# Altium footprint library JST SH connector.PcbLib: 29 footprints (part 1 of 2)
Each footprint in its own frame and in the unit in brackets; x right, y up, seen from the top. Pads: shape width x height; smd on the part's side, far side on the other; paste and mask are expansions set on the pad; w line width, h text height; cw(c..) or ccw(c..) is an arc to the next point about the centre after c.
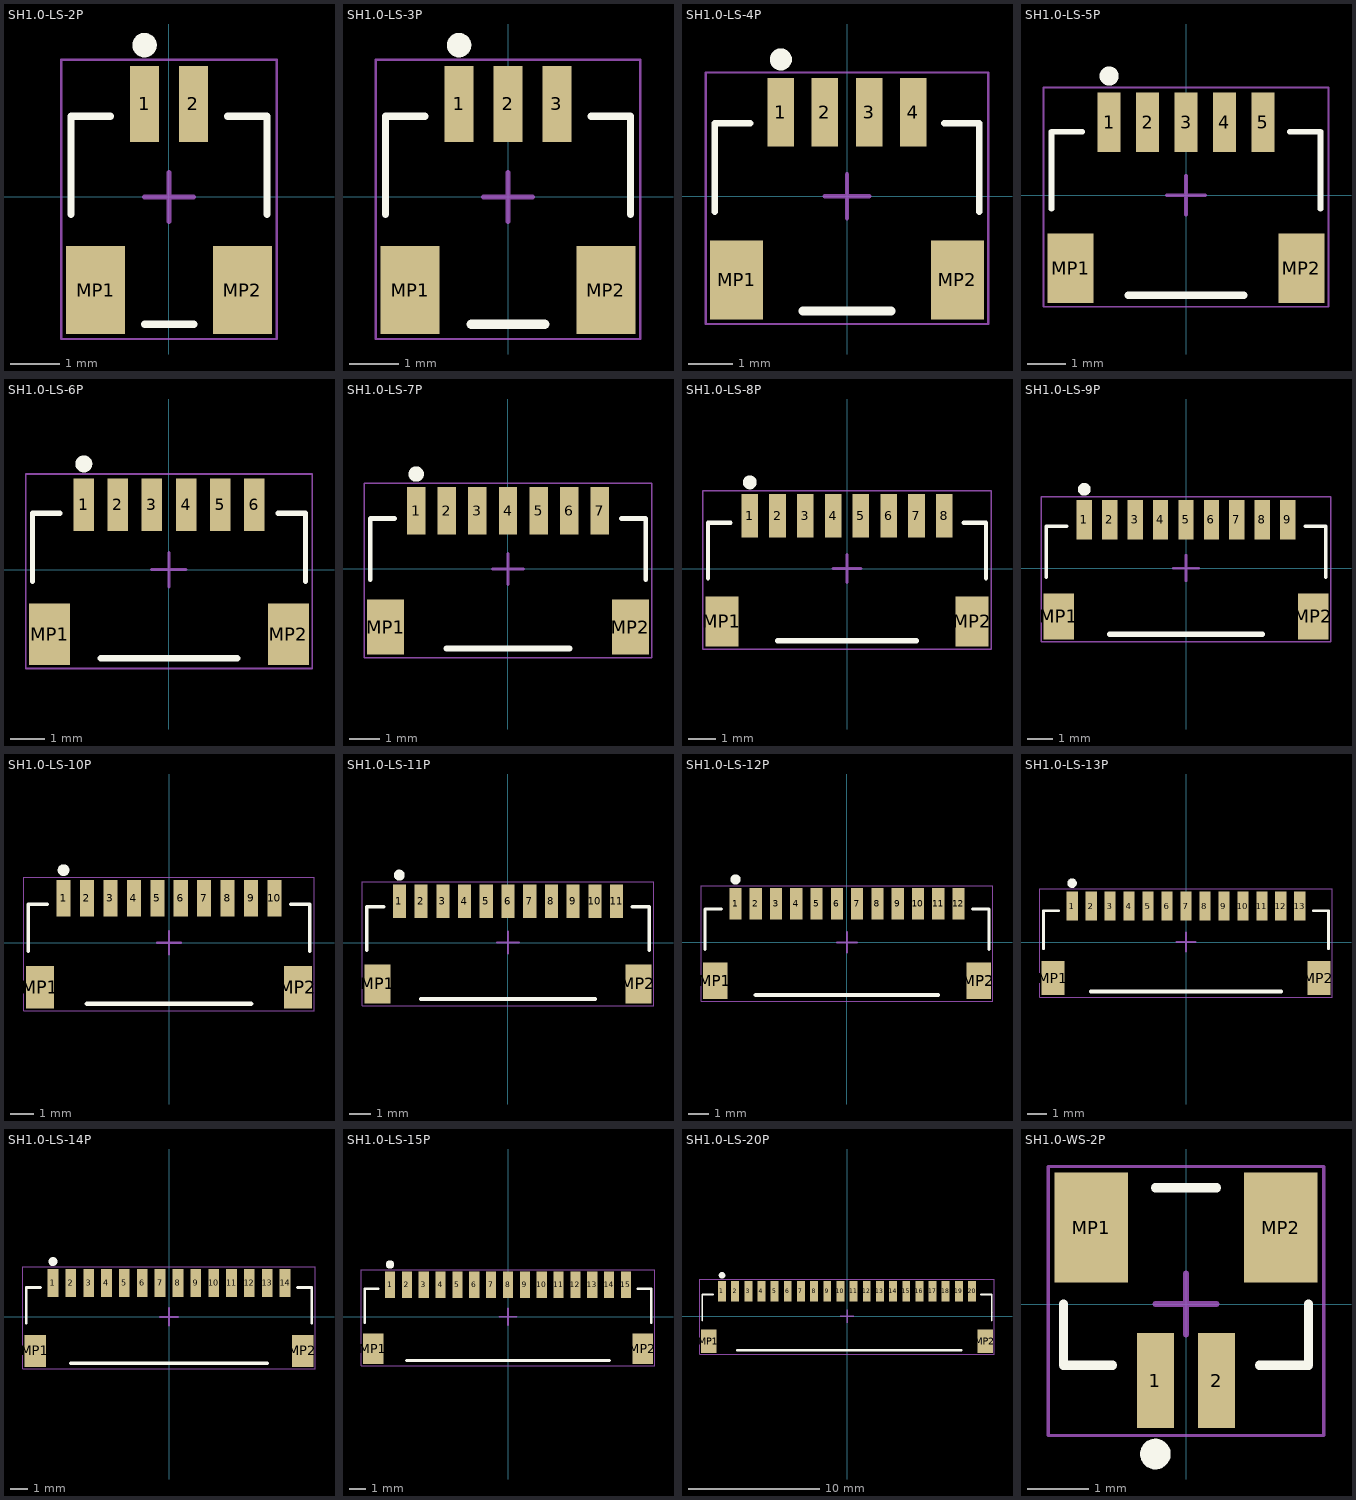
[diagram p0: the footprints below, top view; thin cyan lines are the x and y axes]

## SH1.0-LS-2P [mm]
pads (4):
  rect 0.6x1.55 smd: 1(-0.5,1.9) 2(0.5,1.9)
  rect 1.2x1.8 smd: MP1(-1.5,-1.9) MP2(1.5,-1.9)
Top Overlay:
  circle w0.25: c-0.5,3.1 r0.125
  lines w0.15: -2,-0.35 -2,1.65 -1.2,1.65 ; -0.492,-2.6 0.508,-2.6 ; 1.2,1.65 2,1.65 2,-0.35
Mechanical 15:
  lines w0.05: -2.2,-2.9 2.2,-2.9 2.2,2.8 -2.2,2.8 -2.2,-2.9
  lines w0.1: -0.5,0 0.5,0 ; 0,-0.5 0,0.5
3D body "SM02B-SRSS-TB.STEP": height 2.96, standoff 0, extent -2,-2.6 2,2.35

## SH1.0-LS-3P [mm]
pads (5):
  rect 0.6x1.55 smd: 1(-1,1.9) 2(0,1.9) 3(1,1.9)
  rect 1.2x1.8 smd: MP1(-2,-1.9) MP2(2,-1.9)
Top Overlay:
  circle w0.25: c-1,3.1 r0.125
  lines w0.15: -2.5,-0.35 -2.5,1.65 -1.7,1.65 ; 1.7,1.65 2.5,1.65 2.5,-0.35
  lines w0.2: -0.75,-2.6 0.75,-2.6
Mechanical 15:
  lines w0.05: -2.7,-2.9 2.7,-2.9 2.7,2.8 -2.7,2.8 -2.7,-2.9
  lines w0.1: -0.5,0 0.5,0 ; 0,-0.5 0,0.5
3D body "SM03B-SRSS-TB.STEP": height 2.96, standoff 0, extent -2.5,-2.6 2.5,2.35

## SH1.0-LS-4P [mm]
pads (6):
  rect 0.6x1.55 smd: 1(-1.5,1.9) 2(-0.5,1.9) 3(0.5,1.9) 4(1.5,1.9)
  rect 1.2x1.8 smd: MP1(-2.5,-1.9) MP2(2.5,-1.9)
Top Overlay:
  circle w0.25: c-1.5,3.1 r0.125
  lines w0.15: -3,-0.35 -3,1.65 -2.2,1.65 ; 2.2,1.65 3,1.65 3,-0.35
  lines w0.2: -1,-2.6 1,-2.6
Mechanical 15:
  lines w0.05: -3.2,-2.9 3.2,-2.9 3.2,2.8 -3.2,2.8 -3.2,-2.9
  lines w0.1: -0.5,0 0.5,0 ; 0,-0.5 0,0.5
3D body "SM04B-SRSS-TB.STEP": height 2.96, standoff 0, extent -3,-2.6 3,2.35

## SH1.0-LS-5P [mm]
pads (7):
  rect 0.6x1.55 smd: 1(-2,1.9) 2(-1,1.9) 3(0,1.9) 4(1,1.9) 5(2,1.9)
  rect 1.2x1.8 smd: MP1(-3,-1.9) MP2(3,-1.9)
Top Overlay:
  circle w0.25: c-2,3.1 r0.125
  lines w0.15: -3.5,-0.35 -3.5,1.65 -2.7,1.65 ; 2.7,1.65 3.5,1.65 3.5,-0.35
  lines w0.2: -1.5,-2.6 1.5,-2.6
Mechanical 15:
  lines w0.05: -3.7,-2.9 3.7,-2.9 3.7,2.8 -3.7,2.8 -3.7,-2.9
  lines w0.1: -0.5,0 0.5,0 ; 0,-0.5 0,0.5
3D body "SM05B-SRSS-TB.STEP": height 2.96, standoff 0, extent -3.5,-2.6 3.5,2.35

## SH1.0-LS-6P [mm]
pads (8):
  rect 0.6x1.55 smd: 1(-2.5,1.9) 2(-1.5,1.9) 3(-0.5,1.9) 4(0.5,1.9) 5(1.5,1.9) 6(2.5,1.9)
  rect 1.2x1.8 smd: MP1(-3.5,-1.9) MP2(3.5,-1.9)
Top Overlay:
  circle w0.25: c-2.5,3.1 r0.125
  lines w0.15: -4,-0.35 -4,1.65 -3.2,1.65 ; 3.2,1.65 4,1.65 4,-0.35
  lines w0.2: -2,-2.6 2,-2.6
Mechanical 15:
  lines w0.05: -4.2,-2.9 -4.2,2.8 4.2,2.8 4.2,-2.9 -4.2,-2.9
  lines w0.1: -0.5,0 0.5,0 ; 0,-0.5 0,0.5
3D body "SM06B-SRSS-TB.STEP": height 2.96, standoff 0, extent -4,-2.6 4,2.35

## SH1.0-LS-7P [mm]
pads (9):
  rect 0.6x1.55 smd: 1(-3,1.9) 2(-2,1.9) 3(-1,1.9) 4(0,1.9) 5(1,1.9) 6(2,1.9) 7(3,1.9)
  rect 1.2x1.8 smd: MP1(-4,-1.9) MP2(4,-1.9)
Top Overlay:
  circle w0.25: c-3,3.1 r0.125
  lines w0.15: -4.5,-0.35 -4.5,1.65 -3.7,1.65 ; 3.7,1.65 4.5,1.65 4.5,-0.35
  lines w0.2: -2,-2.6 2,-2.6
Mechanical 15:
  lines w0.05: -4.7,-2.9 4.7,-2.9 4.7,2.8 -4.7,2.8 -4.7,-2.9
  lines w0.1: -0.5,0 0.5,0 ; 0,-0.5 0,0.5
3D body "SM07B-SRSS-TB.STEP": height 2.96, standoff 0, extent -4.5,-2.6 4.5,2.35

## SH1.0-LS-8P [mm]
pads (10):
  rect 0.6x1.55 smd: 1(-3.5,1.9) 2(-2.5,1.9) 3(-1.5,1.9) 4(-0.5,1.9) 5(0.5,1.9) 6(1.5,1.9) 7(2.5,1.9) 8(3.5,1.9)
  rect 1.2x1.8 smd: MP1(-4.5,-1.9) MP2(4.5,-1.9)
Top Overlay:
  circle w0.25: c-3.5,3.1 r0.125
  lines w0.15: -5,-0.35 -5,1.65 -4.2,1.65 ; 4.2,1.65 5,1.65 5,-0.35
  lines w0.2: -2.5,-2.6 2.5,-2.6
Mechanical 15:
  lines w0.05: -5.2,-2.9 -5.2,2.8 5.2,2.8 5.2,-2.9 -5.2,-2.9
  lines w0.1: -0.5,0 0.5,0 ; 0,-0.5 0,0.5
3D body "SM08B-SRSS-TB.STEP": height 2.96, standoff 0, extent -5,-2.6 5,2.35

## SH1.0-LS-9P [mm]
pads (11):
  rect 0.6x1.55 smd: 1(-4,1.9) 2(-3,1.9) 3(-2,1.9) 4(-1,1.9) 5(0,1.9) 6(1,1.9) 7(2,1.9) 8(3,1.9) 9(4,1.9)
  rect 1.2x1.8 smd: MP1(-5,-1.9) MP2(5,-1.9)
Top Overlay:
  circle w0.25: c-4,3.1 r0.125
  lines w0.15: -5.5,-0.35 -5.5,1.65 -4.7,1.65 ; 4.7,1.65 5.5,1.65 5.5,-0.35
  lines w0.2: -3,-2.6 3,-2.6
Mechanical 15:
  lines w0.05: -5.7,-2.9 5.7,-2.9 5.7,2.8 -5.7,2.8 -5.7,-2.9
  lines w0.1: -0.5,0 0.5,0 ; 0,-0.5 0,0.5
3D body "SM09B-SRSS-TB.STEP": height 2.96, standoff 0, extent -5.5,-2.6 5.5,2.35

## SH1.0-LS-10P [mm]
pads (12):
  rect 0.6x1.55 smd: 1(-4.5,1.9) 2(-3.5,1.9) 3(-2.5,1.9) 4(-1.5,1.9) 5(-0.5,1.9) 6(0.5,1.9) 7(1.5,1.9) 8(2.5,1.9) 9(3.5,1.9) 10(4.5,1.9)
  rect 1.2x1.8 smd: MP1(-5.5,-1.9) MP2(5.5,-1.9)
Top Overlay:
  circle w0.25: c-4.5,3.1 r0.125
  lines w0.15: -6,-0.35 -6,1.65 -5.2,1.65 ; 5.2,1.65 6,1.65 6,-0.35
  lines w0.2: -3.5,-2.6 3.5,-2.6
Mechanical 15:
  lines w0.05: -6.2,-2.9 6.2,-2.9 6.2,2.8 -6.2,2.8 -6.2,-2.9
  lines w0.1: -0.5,0 0.5,0 ; 0,-0.5 0,0.5
3D body "SM10B-SRSS-TB.STEP": height 2.96, standoff 0, extent -6,-2.6 6,2.35

## SH1.0-LS-11P [mm]
pads (13):
  rect 0.6x1.55 smd: 1(-5,1.9) 2(-4,1.9) 3(-3,1.9) 4(-2,1.9) 5(-1,1.9) 6(0,1.9) 7(1,1.9) 8(2,1.9) 9(3,1.9) 10(4,1.9) 11(5,1.9)
  rect 1.2x1.8 smd: MP1(-6,-1.9) MP2(6,-1.9)
Top Overlay:
  circle w0.25: c-5,3.1 r0.125
  lines w0.15: -6.5,-0.35 -6.5,1.65 -5.7,1.65 ; 5.7,1.65 6.5,1.65 6.5,-0.35
  lines w0.2: -4,-2.6 4,-2.6
Mechanical 15:
  lines w0.05: -6.7,-2.9 -6.7,2.8 6.7,2.8 6.7,-2.9 -6.7,-2.9
  lines w0.1: -0.5,0 0.5,0 ; 0,-0.5 0,0.5
3D body "SM11B-SRSS-TB.STEP": height 2.96, standoff 0, extent -6.5,-2.6 6.5,2.35

## SH1.0-LS-12P [mm]
pads (14):
  rect 0.6x1.55 smd: 1(-5.5,1.9) 2(-4.5,1.9) 3(-3.5,1.9) 4(-2.5,1.9) 5(-1.5,1.9) 6(-0.5,1.9) 7(0.5,1.9) 8(1.5,1.9) 9(2.5,1.9) 10(3.5,1.9) 11(4.5,1.9) 12(5.5,1.9)
  rect 1.2x1.8 smd: MP1(-6.5,-1.9) MP2(6.5,-1.9)
Top Overlay:
  circle w0.25: c-5.5,3.1 r0.125
  lines w0.15: -7,-0.35 -7,1.65 -6.2,1.65 ; 6.2,1.65 7,1.65 7,-0.35
  lines w0.2: -4.5,-2.6 4.5,-2.6
Mechanical 15:
  lines w0.05: -7.2,-2.9 7.2,-2.9 7.2,2.8 -7.2,2.8 -7.2,-2.9
  lines w0.1: -0.5,0 0.5,0 ; 0,-0.5 0,0.5
3D body "SM12B-SRSS-TB.STEP": height 2.96, standoff 0, extent -7,-2.6 7,2.35

## SH1.0-LS-13P [mm]
pads (15):
  rect 0.6x1.55 smd: 1(-6,1.9) 2(-5,1.9) 3(-4,1.9) 4(-3,1.9) 5(-2,1.9) 6(-1,1.9) 7(0,1.9) 8(1,1.9) 9(2,1.9) 10(3,1.9) 11(4,1.9) 12(5,1.9) 13(6,1.9)
  rect 1.2x1.8 smd: MP1(-7,-1.9) MP2(7,-1.9)
Top Overlay:
  circle w0.25: c-6,3.1 r0.125
  lines w0.15: -7.5,-0.35 -7.5,1.65 -6.7,1.65 ; 6.7,1.65 7.5,1.65 7.5,-0.35
  lines w0.2: -5,-2.6 5,-2.6
Mechanical 15:
  lines w0.05: -7.7,-2.9 7.7,-2.9 7.7,2.8 -7.7,2.8 -7.7,-2.9
  lines w0.1: -0.5,0 0.5,0 ; 0,-0.5 0,0.5
3D body "SM13B-SRSS-TB.STEP": height 2.96, standoff 0, extent -7.5,-2.6 7.5,2.35

## SH1.0-LS-14P [mm]
pads (16):
  rect 0.6x1.55 smd: 1(-6.5,1.9) 2(-5.5,1.9) 3(-4.5,1.9) 4(-3.5,1.9) 5(-2.5,1.9) 6(-1.5,1.9) 7(-0.5,1.9) 8(0.5,1.9) 9(1.5,1.9) 10(2.5,1.9) 11(3.5,1.9) 12(4.5,1.9) 13(5.5,1.9) 14(6.5,1.9)
  rect 1.2x1.8 smd: MP1(-7.5,-1.9) MP2(7.5,-1.9)
Top Overlay:
  circle w0.25: c-6.5,3.1 r0.125
  lines w0.15: -8,-0.35 -8,1.65 -7.2,1.65 ; 7.2,1.65 8,1.65 8,-0.35
  lines w0.2: -5.5,-2.6 5.5,-2.6
Mechanical 15:
  lines w0.05: -8.2,-2.9 8.2,-2.9 8.2,2.8 -8.2,2.8 -8.2,-2.9
  lines w0.1: -0.5,0 0.5,0 ; 0,-0.5 0,0.5
3D body "SM14B-SRSS-TB.STEP": height 2.96, standoff 0, extent -8,-2.6 8,2.35

## SH1.0-LS-15P [mm]
pads (17):
  rect 0.6x1.55 smd: 1(-7,1.9) 2(-6,1.9) 3(-5,1.9) 4(-4,1.9) 5(-3,1.9) 6(-2,1.9) 7(-1,1.9) 8(0,1.9) 9(1,1.9) 10(2,1.9) 11(3,1.9) 12(4,1.9) 13(5,1.9) 14(6,1.9) 15(7,1.9)
  rect 1.2x1.8 smd: MP1(-8,-1.9) MP2(8,-1.9)
Top Overlay:
  circle w0.25: c-7,3.1 r0.125
  lines w0.15: -8.5,-0.35 -8.5,1.65 -7.7,1.65 ; 7.7,1.65 8.5,1.65 8.5,-0.35
  lines w0.2: -6,-2.6 6,-2.6
Mechanical 15:
  lines w0.05: -8.7,-2.9 -8.7,2.8 8.7,2.8 8.7,-2.9 -8.7,-2.9
  lines w0.1: -0.5,0 0.5,0 ; 0,-0.5 0,0.5
3D body "SM15B-SRSS-TB.STEP": height 2.96, standoff 0, extent -8.5,-2.6 8.5,2.35

## SH1.0-LS-20P [mm]
pads (24):
  rect 0.6x1.55 smd: 1(-9.5,1.9) 2(-8.5,1.9) 3(-7.5,1.9) 4(-6.5,1.9) 5(-5.5,1.9) 6(-4.5,1.9) 7(-3.5,1.9) 8(-2.5,1.9) 9(-1.5,1.9) 10(-0.5,1.9) 11(0.5,1.9) 12(1.5,1.9) 13(2.5,1.9) 14(3.5,1.9) 15(4.5,1.9) 16(5.5,1.9) 17(6.5,1.9) 18(7.5,1.9) 19(8.5,1.9) 20(9.5,1.9)
  round 0.05 on Mech13: 30(11.03,0.275) 31(-11.029,-2.275)
  rect 1.2x1.8 smd: MP1(-10.5,-1.9) MP2(10.5,-1.9)
Top Overlay:
  circle w0.25: c-9.5,3.1 r0.125
  lines w0.15: -11,-0.35 -11,1.65 -10.2,1.65 ; 10.2,1.65 11,1.65 11,-0.35
  lines w0.2: -8.33,-2.6 8.67,-2.6
Mechanical 15:
  lines w0.05: -11.2,-2.9 -11.2,2.8 11.2,2.8 11.2,-2.9 -11.2,-2.9
  lines w0.1: -0.5,0 0.5,0 ; 0,-0.5 0,0.5
3D body "SM20B-SRSS-TB.STEP": height 2.96, standoff 0, extent -11,-2.6 11,2.35

## SH1.0-WS-2P [mm]
pads (4):
  rect 0.6x1.55 smd: 1(-0.5,-1.25) 2(0.5,-1.25)
  rect 1.2x1.8 smd: MP1(-1.55,1.25) MP2(1.55,1.25)
Top Overlay:
  circle w0.25: c-0.5,-2.45 r0.125
  lines w0.15: -2,0 -2,-1 -1.2,-1 ; -0.5,1.9 0.5,1.9 ; 1.2,-1 2,-1 2,0
Mechanical 15:
  lines w0.05: -2.25,-2.15 -2.25,2.25 2.25,2.25 2.25,-2.15 -2.25,-2.15
  lines w0.1: -0.5,0 0.5,0 ; 0,-0.5 0,0.5
3D body "BM02B-SRSS-TB.STEP": height 4.3, standoff -0.02, extent -2,-1.7 2,1.9